# EAGLE library part CONN_ALT_HEADER (library con-other)
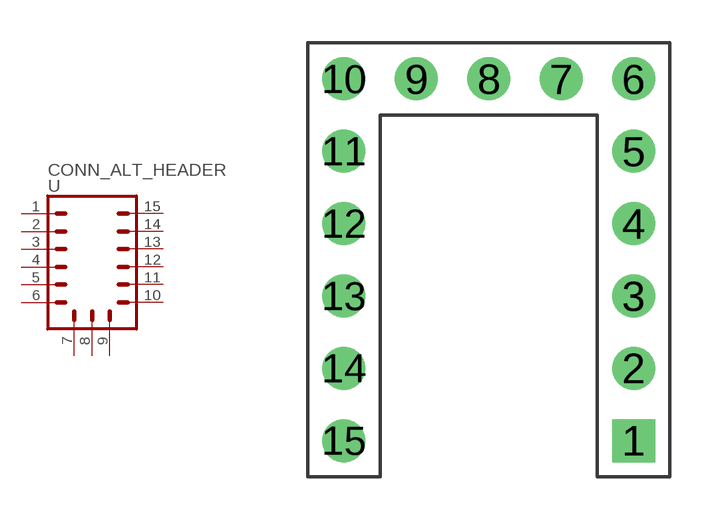
[diagram p0: symbol with the pads of CONN_ALT_HEADER; footprint CONN_ALT_HEADER]

Designator prefix -

## CONN_ALT_HEADER  [CONN_ALT_HEADER]
1  1  pas
2  2  pas
3  3  pas
4  4  pas
5  5  pas
6  6  pas
7  7  pas
8  8  pas
9  9  pas
10  10  pas
11  11  pas
12  12  pas
13  13  pas
14  14  pas
15  15  pas

## Footprint CONN_ALT_HEADER (pad centres in mm)
Plated Through Hole - 5 Pin Specifications: Pin count:5 Pin pitch:0.1" Example device(s): CONN_05
drill 1 square: 1 5.08,-6.35
drill 1: 2 5.08,-3.81; 3 5.08,-1.27; 4 5.08,1.27; 5 5.08,3.81; 6 5.08,6.35; 7 2.54,6.35; 8 0,6.35; 9 -2.54,6.35; 10 -5.08,6.35; 11 -5.08,3.81; 12 -5.08,1.27; 13 -5.08,-1.27; 14 -5.08,-3.81; 15 -5.08,-6.35